# Altium footprint library edison.PcbLib: 1 footprints
Each footprint in its own frame and in the unit in brackets; x right, y up, seen from the top. Pads: shape width x height; smd on the part's side, far side on the other; paste and mask are expansions set on the pad; w line width, h text height; cw(c..) or ccw(c..) is an arc to the next point about the centre after c.
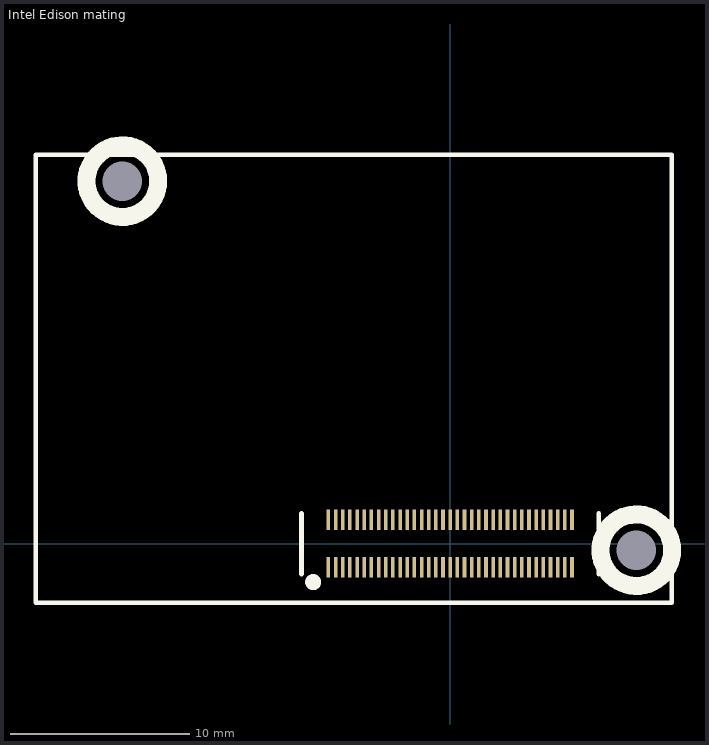
[diagram p0: the footprint, top view; thin cyan lines are the x and y axes]

## Intel Edison mating [mm] "DF40 Series 0.4 mm Pitch, 3.0 Height, Board-to-Board connectors"
pads (72):
  rect 0.2x1.14 smd: 1(-6.8,-1.32) 2(-6.8,1.32) 3(-6.4,-1.32) 4(-6.4,1.32) 5(-6,-1.32) 6(-6,1.32) 7(-5.6,-1.32) 8(-5.6,1.32) 9(-5.2,-1.32) 10(-5.2,1.32) 11(-4.8,-1.32) 12(-4.8,1.32) 13(-4.4,-1.32) 14(-4.4,1.32) 15(-4,-1.32) 16(-4,1.32) 17(-3.6,-1.32) 18(-3.6,1.32) 19(-3.2,-1.32) 20(-3.2,1.32) 21(-2.8,-1.32) 22(-2.8,1.32) 23(-2.4,-1.32) 24(-2.4,1.32) 25(-2,-1.32) 26(-2,1.32) 27(-1.6,-1.32) 28(-1.6,1.32) 29(-1.2,-1.32) 30(-1.2,1.32) 31(-0.8,-1.32) 32(-0.8,1.32) 33(-0.4,-1.32) 34(-0.4,1.32) 35(0,-1.32) 36(0,1.32) 37(0.4,-1.32) 38(0.4,1.32) 39(0.8,-1.32) 40(0.8,1.32) 41(1.2,-1.32) 42(1.2,1.32) 43(1.6,-1.32) 44(1.6,1.32) 45(2,-1.32) 46(2,1.32) 47(2.4,-1.32) 48(2.4,1.32) 49(2.8,-1.32) 50(2.8,1.32) 51(3.2,-1.32) 52(3.2,1.32) 53(3.6,-1.32) 54(3.6,1.32) 55(4,-1.32) 56(4,1.32) 57(4.4,-1.32) 58(4.4,1.32) 59(4.8,-1.32) 60(4.8,1.32) 61(5.2,-1.32) 62(5.2,1.32) 63(5.6,-1.32) 64(5.6,1.32) 65(6,-1.32) 66(6,1.32) 67(6.4,-1.32) 68(6.4,1.32) 69(6.8,-1.32) 70(6.8,1.32)
  round 0 hole 2.2: ""(-18.3,20.23) ""(10.39,-0.37)
Top Overlay:
  circle w0.5: c-7.65,-2.15 r0.195
  circle w1: c-18.3,20.23 r2
  circle w1: c10.39,-0.37 r2
  lines w0.254: -23.13,-3.3 -23.13,21.7 12.37,21.7 12.37,-3.3 ; -23.1,-3.3 12.275,-3.3 ; -8.3,-1.7 -8.3,1.7 ; 8.3,-1.7 8.3,1.7
Bottom Overlay:
  circle w1: c-18.3,20.23 r2
  circle w1: c10.39,-0.37 r2
3D body: height 5.31, standoff 1.3, extent -23.125,-3.38 12.435,21.7
3D body: height 2.9, standoff 0, extent -8.3,-1.68 8.3,1.7